# Altium integrated library ATMEGA4809-AFR.IntLib: 1 symbol
Pins are listed as number, name and electrical type; pins without a type are passive.

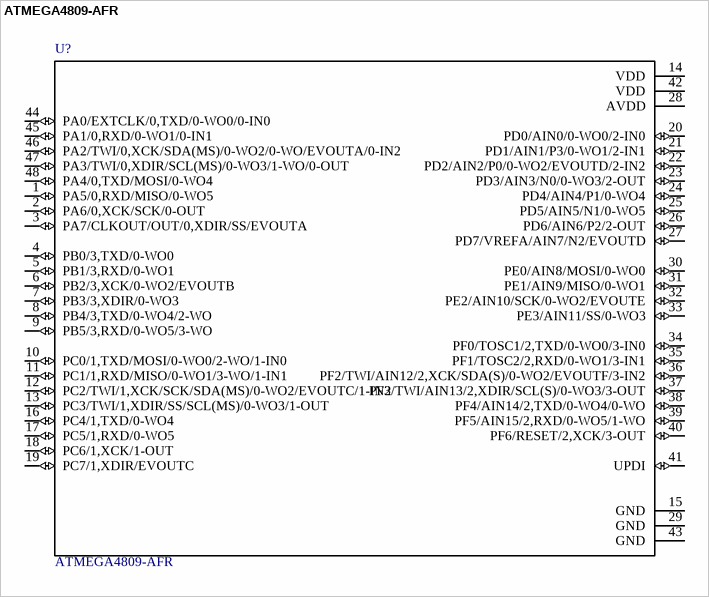
[diagram p0: symbol ATMEGA4809-AFR]

## ATMEGA4809-AFR
designator U?
/ 20MHz 48KB TQFP48 Ind 125C Green T&R /; MF: Microchip; Package: TQFP-48 Microchip; Price: None; Availability: Unavailable; MP: ATMEGA4809-AFR; SnapEDA_Link: https://www.snapeda.com/parts/ATMEGA4809-AFR/Microchip/view-part/?ref=snap; Value: *
footprint *QFP50P900X900X120-48N
pins: 1 PA5/0,RXD/MISO/0-WO5 (io), 2 PA6/0,XCK/SCK/0-OUT (io), 3 PA7/CLKOUT/OUT/0,XDIR/SS/EVOUTA (io), 4 PB0/3,TXD/0-WO0 (io), 5 PB1/3,RXD/0-WO1 (io), 6 PB2/3,XCK/0-WO2/EVOUTB (io), 7 PB3/3,XDIR/0-WO3 (io), 8 PB4/3,TXD/0-WO4/2-WO (io), 9 PB5/3,RXD/0-WO5/3-WO (io), 10 PC0/1,TXD/MOSI/0-WO0/2-WO/1-IN0 (io), 11 PC1/1,RXD/MISO/0-WO1/3-WO/1-IN1 (io), 12 PC2/TWI/1,XCK/SCK/SDA(MS)/0-WO2/EVOUTC/1-IN2 (io), 13 PC3/TWI/1,XDIR/SS/SCL(MS)/0-WO3/1-OUT (io), 14 VDD (power), 15 GND (power), 16 PC4/1,TXD/0-WO4 (io), 17 PC5/1,RXD/0-WO5 (io), 18 PC6/1,XCK/1-OUT (io), 19 PC7/1,XDIR/EVOUTC (io), 20 PD0/AIN0/0-WO0/2-IN0 (io), 21 PD1/AIN1/P3/0-WO1/2-IN1 (io), 22 PD2/AIN2/P0/0-WO2/EVOUTD/2-IN2 (io), 23 PD3/AIN3/N0/0-WO3/2-OUT (io), 24 PD4/AIN4/P1/0-WO4 (io), 25 PD5/AIN5/N1/0-WO5 (io), 26 PD6/AIN6/P2/2-OUT (io), 27 PD7/VREFA/AIN7/N2/EVOUTD (io), 28 AVDD (power), 29 GND (power), 30 PE0/AIN8/MOSI/0-WO0 (io), 31 PE1/AIN9/MISO/0-WO1 (io), 32 PE2/AIN10/SCK/0-WO2/EVOUTE (io), 33 PE3/AIN11/SS/0-WO3 (io), 34 PF0/TOSC1/2,TXD/0-WO0/3-IN0 (io), 35 PF1/TOSC2/2,RXD/0-WO1/3-IN1 (io), 36 PF2/TWI/AIN12/2,XCK/SDA(S)/0-WO2/EVOUTF/3-IN2 (io), 37 PF3/TWI/AIN13/2,XDIR/SCL(S)/0-WO3/3-OUT (io), 38 PF4/AIN14/2,TXD/0-WO4/0-WO (io), 39 PF5/AIN15/2,RXD/0-WO5/1-WO (io), 40 PF6/RESET/2,XCK/3-OUT (io), 41 UPDI (io), 42 VDD (power), 43 GND (power), 44 PA0/EXTCLK/0,TXD/0-WO0/0-IN0 (io), 45 PA1/0,RXD/0-WO1/0-IN1 (io), 46 PA2/TWI/0,XCK/SDA(MS)/0-WO2/0-WO/EVOUTA/0-IN2 (io), 47 PA3/TWI/0,XDIR/SCL(MS)/0-WO3/1-WO/0-OUT (io), 48 PA4/0,TXD/MOSI/0-WO4 (io)